# Altium integrated library NXP Semiconductors Standard MOSFETs.IntLib: 477 symbols (part 2 of 14)
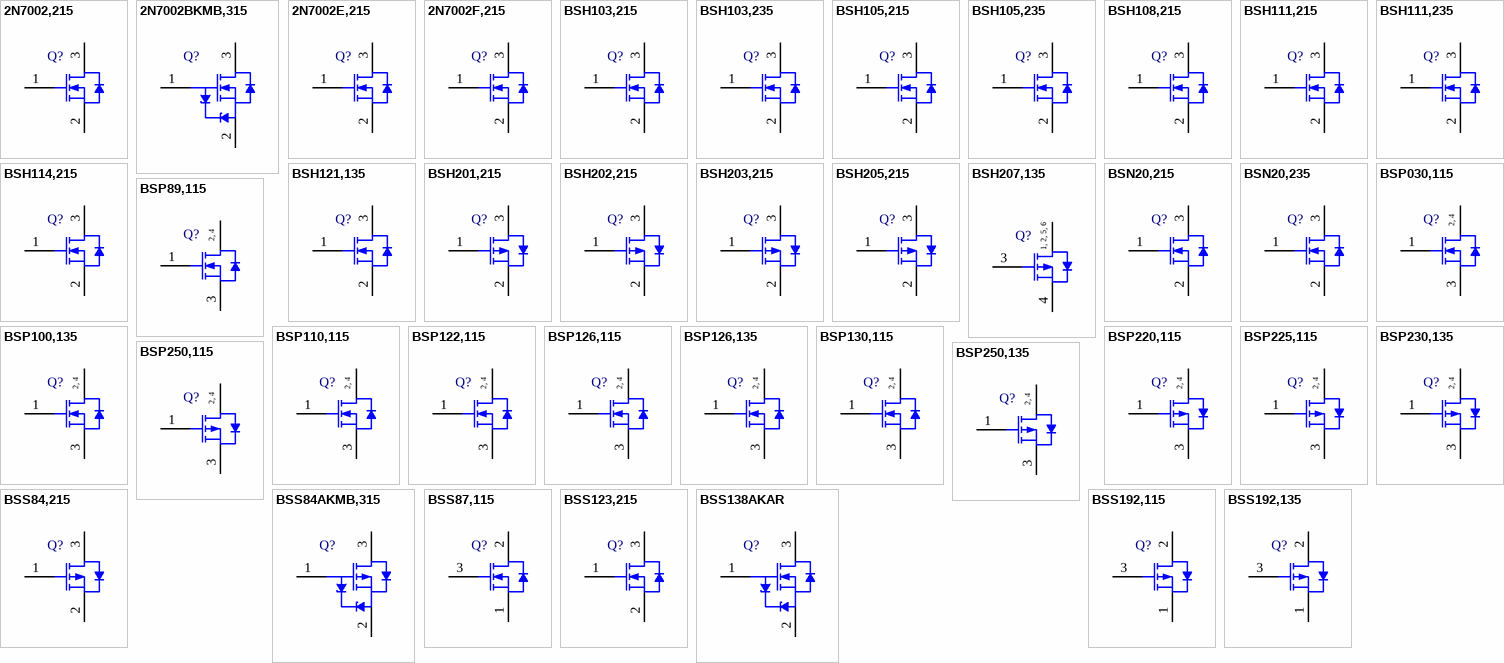
[diagram p13: symbols 2N7002,215 to BSS192,135]

## BSP250,115
designator Q?
P-Channel Enhancement Mode Vertical D-MOS Transistor, -30 V, -3 A, 4-Pin SOT223, Tape and Reel; Manufacturer: NXP Semiconductors; PartNumber: BSP250,115; Channel Type: P; Ciss [typ] (pF): 250; Coss [typ] (pF): 140; Packing: Tape & Reel; PackageVersion: 06-03-16, 03/2006; PackageReference: SOT223; PackageDescription: 4-Pin Small Outline Transistor Package, Body 6.5 x 3.5 mm, Pitch 2.3 mm; Supplier 1: Digi-Key; Supplier Part Number 1: 568-6222-2-ND; Supplier 2: Digi-Key; Supplier Part Number 2: 568-6222-1-ND; Supplier 3: Digi-Key; Supplier Part Number 3: 568-6222-6-ND; Supplier 4: Farnell; Supplier Part Number 4: 1758086RL; Supplier 5: Farnell; Supplier Part Number 5: 1758086; Supplier 6: Newark; Supplier Part Number 6: 34R3025; Supplier 7: Mouser; Supplier Part Number 7: 771-BSP250115; ID [max] (A): -3; VDS [max] (V): -30; Mounting Technology: Surface Mount; Code_JEITA: SC-73; ComponentLink1Description: Manufacturer URL; ComponentLink1URL: http://www.nxp.com/; ComponentLink2Description: Datasheet; ComponentLink2URL: http://www.nxp.com/documents/data_sheet/BSP250.pdf; ComponentLink3Description: Package Specification; ComponentLink3URL: http://www.nxp.com/documents/outline_drawing/sot223_po.pdf
footprint NXP-SOT223_N (SOT223, 4-Leads, Body 6.7x3.7mm, Pitch 2.3mm, IPC Medium Density)
footprint NXP-SOT223_L (SOT223, 4-Leads, Body 6.7x3.7mm, Pitch 2.3mm, IPC High Density)
footprint NXP-SOT223_M (SOT223, 4-Leads, Body 6.7x3.7mm, Pitch 2.3mm, IPC Low Density)
pins: 1 G "gate", 2 D "drain", 3 S "source", 4 D "drain"
text: 2, 4

## BSP250,135
designator Q?
P-Channel Enhancement Mode Vertical D-MOS Transistor, -30 V, -3 A, 4-Pin SOT223, Tape and Reel; Manufacturer: NXP Semiconductors; PartNumber: BSP250,135; Channel Type: P; Ciss [typ] (pF): 250; Coss [typ] (pF): 140; Packing: Tape & Reel; PackageVersion: 06-03-16, 03/2006; PackageReference: SOT223; PackageDescription: 4-Pin Small Outline Transistor Package, Body 6.5 x 3.5 mm, Pitch 2.3 mm; Supplier 1: Digi-Key; Supplier Part Number 1: 568-6960-2-ND; Supplier 2: Digi-Key; Supplier Part Number 2: 568-6960-1-ND; Supplier 3: Digi-Key; Supplier Part Number 3: 568-6960-6-ND; Supplier 4: Newark; Supplier Part Number 4: 70R2939; Supplier 5: Mouser; Supplier Part Number 5: 771-BSP250135; ID [max] (A): -3; VDS [max] (V): -30; Mounting Technology: Surface Mount; Code_JEITA: SC-73; ComponentLink1Description: Manufacturer URL; ComponentLink1URL: http://www.nxp.com/; ComponentLink2Description: Datasheet; ComponentLink2URL: http://www.nxp.com/documents/data_sheet/BSP250.pdf; ComponentLink3Description: Package Specification; ComponentLink3URL: http://www.nxp.com/documents/outline_drawing/sot223_po.pdf
footprint NXP-SOT223_N (SOT223, 4-Leads, Body 6.7x3.7mm, Pitch 2.3mm, IPC Medium Density)
footprint NXP-SOT223_L (SOT223, 4-Leads, Body 6.7x3.7mm, Pitch 2.3mm, IPC High Density)
footprint NXP-SOT223_M (SOT223, 4-Leads, Body 6.7x3.7mm, Pitch 2.3mm, IPC Low Density)
pins: 1 G "gate", 2 D "drain", 3 S "source", 4 D "drain"
text: 2, 4

## BSS84,215
designator Q?
P-Channel Enhancement Mode Vertical DMOS Transistor, -50 V, -0.13 A, 3-Pin SOT23, Tape and Reel; Manufacturer: NXP Semiconductors; PartNumber: BSS84,215; Channel Type: P; Ciss [typ] (pF): 25; Coss [typ] (pF): 15; Packing: Tape & Reel; DatasheetVersion: Rev. 06; PackageVersion: 06-03-16, 03/2006; PackageReference: SOT23; PackageDescription: 3-Pin Small Outline Transistor Package, Body 2.9 x 1.3 mm, Pitch 0.95 mm; Supplier 1: Digi-Key; Supplier Part Number 1: 568-1660-2-ND; Supplier 2: Digi-Key; Supplier Part Number 2: 568-1660-1-ND; Supplier 3: Digi-Key; Supplier Part Number 3: 568-1660-6-ND; Supplier 4: Farnell; Supplier Part Number 4: 1510765; Supplier 5: Farnell; Supplier Part Number 5: 1510765RL; Supplier 6: Farnell; Supplier Part Number 6: 2319389; Supplier 7: Newark; Supplier Part Number 7: 75R4702; Supplier 8: Newark; Supplier Part Number 8: 70R2967; Supplier 9: Mouser; Supplier Part Number 9: 771-BSS84-T/R; ID [max] (A): -0.13; VDS [max] (V): -50; Mounting Technology: Surface Mount; Code_JEDEC: TO-236AB; ComponentLink1Description: Manufacturer URL; ComponentLink1URL: http://www.nxp.com/; ComponentLink2Description: Datasheet; ComponentLink2URL: http://www.nxp.com/documents/data_sheet/BSS84.pdf; ComponentLink3Description: Package Specification; ComponentLink3URL: http://www.nxp.com/documents/outline_drawing/sot023_po.pdf
footprint NXP-SOT23_N (SOT23, 3-Leads, Body 3x1.4mm, Pitch 0.95mm, IPC Medium Density)
footprint NXP-SOT23_L (SOT23, 3-Leads, Body 3x1.4mm, Pitch 0.95mm, IPC High Density)
footprint NXP-SOT23_M (SOT23, 3-Leads, Body 3x1.4mm, Pitch 0.95mm, IPC Low Density)
pins: 1 G "gate", 2 S "source", 3 D "drain"

## BSS84AKMB,315
designator Q?
Single P-Channel Trench MOSFET, -50 V, -0.23 A, -55 to 150 degC, 3-Pin SOT883B, Reel; Manufacturer: NXP Semiconductors; PartNumber: BSS84AKMB,315; Channel Type: P; Ciss [typ] (pF): 24; Coss [typ] (pF): 4.5; VGSth [typ] (V): -1.6; DatasheetVersion: Rev. 1; PackageVersion: 12-01-03, 01/2012; PackageReference: SOT883B; PackageDescription: 3-Pin Small Outline No-Lead, Body 0.6 x 1 mm, Pitch 0.35 mm; Supplier 1: Digi-Key; Supplier Part Number 1: 568-10472-2-ND; Supplier 2: Digi-Key; Supplier Part Number 2: 568-10472-1-ND; Supplier 3: Digi-Key; Supplier Part Number 3: 568-10472-6-ND; Supplier 4: Newark; Supplier Part Number 4: 90T4165; Supplier 5: Mouser; Supplier Part Number 5: 771-BSS84AKMB315; ID [max] (A): -0.23; Packing: Reel; VDS [max] (V): -50; Mounting Technology: Surface Mount; ComponentLink1Description: Manufacturer URL; ComponentLink1URL: http://www.nxp.com/; ComponentLink2Description: Datasheet; ComponentLink2URL: http://www.nxp.com/documents/data_sheet/BSS84AKMB.pdf; ComponentLink3Description: Package Specification; ComponentLink3URL: http://www.nxp.com/documents/outline_drawing/sot883b_po.pdf
footprint NXP-SOT883B_N (SON, 3-Leads, Body 1.05x0.65mm, Pitch 0.35mm, IPC Medium Density)
footprint NXP-SOT883B_L (SON, 3-Leads, Body 1.05x0.65mm, Pitch 0.35mm, IPC High Density)
footprint NXP-SOT883B_M (SON, 3-Leads, Body 1.05x0.65mm, Pitch 0.35mm, IPC Low Density)
pins: 1 G "gate", 2 S "source", 3 D "drain"

## BSS87,115
designator Q?
N-Channel Vertical D-MOS Transistor, 200 V, -55 to 150 degC, 3-Pin SOT89, Tape and Reel; Manufacturer: NXP Semiconductors; PartNumber: BSS87,115; Channel Type: N; Ciss [typ] (pF): 100; Coss [typ] (pF): 20; Packing: Tape & Reel; VDS [max] (V): 200; DatasheetVersion: Rev. 4; PackageVersion: 06-08-29, 08/2006; PackageReference: SOT89_A; PackageDescription: 3-Pin Small Outline Transistor Package, Body 4.5 x 2.5 mm, Pitch 1.5 mm; Supplier 1: Digi-Key; Supplier Part Number 1: 568-6228-2-ND; Supplier 2: Digi-Key; Supplier Part Number 2: 568-6228-1-ND; Supplier 3: Digi-Key; Supplier Part Number 3: 568-6228-6-ND; Supplier 4: Farnell; Supplier Part Number 4: 1758089RL; Supplier 5: Farnell; Supplier Part Number 5: 1758089; Supplier 6: Newark; Supplier Part Number 6: 75R4703; Supplier 7: Newark; Supplier Part Number 7: 34R3038; Supplier 8: Mouser; Supplier Part Number 8: 771-BSS87-T/R; Mounting Technology: Surface Mount; Code_JEITA: SC-62; Code_JEDEC: TO-243; ComponentLink1Description: Manufacturer URL; ComponentLink1URL: http://www.nxp.com/; ComponentLink2Description: Datasheet; ComponentLink2URL: http://www.nxp.com/documents/data_sheet/BSS87.pdf; ComponentLink3Description: Package Specification; ComponentLink3URL: http://www.nxp.com/documents/data_sheet/BSS87.pdf
footprint NXP-SOT89_A_N (SOT89, 3-Leads, Body 4.6x2.6mm, Pitch 1.5mm, IPC Medium Density)
footprint NXP-SOT89_A_L (SOT89, 3-Leads, Body 4.6x2.6mm, Pitch 1.5mm, IPC High Density)
footprint NXP-SOT89_A_M (SOT89, 3-Leads, Body 4.6x2.6mm, Pitch 1.5mm, IPC Low Density)
pins: 1 S "source", 2 D "drain", 3 G "gate"

## BSS123,215
designator Q?
N-Channel TrenchMOS(TM) Transistor Logic Level FET, 100 V, 0.15 A, 3-Pin SOT23, Tape and Reel; Manufacturer: NXP Semiconductors; PartNumber: BSS123,215; Channel Type: N; Ciss [typ] (pF): 23; Coss [typ] (pF): 6; ID [max] (A): 0.15; Packing: Tape & Reel; VDS [max] (V): 100; VGSth [typ] (V): 2; DatasheetVersion: Rev. 1.000; PackageVersion: 06-03-16, 03/2006; PackageReference: SOT23; PackageDescription: 3-Pin Small Outline Transistor Package, Body 2.9 x 1.3 mm, Pitch 0.95 mm; Supplier 1: Digi-Key; Supplier Part Number 1: 568-4873-2-ND; Supplier 2: Digi-Key; Supplier Part Number 2: 568-4873-1-ND; Supplier 3: Digi-Key; Supplier Part Number 3: 568-4873-6-ND; Supplier 4: Farnell; Supplier Part Number 4: 1510764; Supplier 5: Farnell; Supplier Part Number 5: 1510764RL; Supplier 6: Farnell; Supplier Part Number 6: 2319393; Supplier 7: Newark; Supplier Part Number 7: 75R4699; Supplier 8: Newark; Supplier Part Number 8: 70R2961; Supplier 9: Mouser; Supplier Part Number 9: 771-BSS123-T/R; Mounting Technology: Surface Mount; Code_JEDEC: TO-236AB; ComponentLink1Description: Manufacturer URL; ComponentLink1URL: http://www.nxp.com/; ComponentLink2Description: Datasheet; ComponentLink2URL: http://www.nxp.com/documents/data_sheet/BSS123.pdf; ComponentLink3Description: Package Specification; ComponentLink3URL: http://www.nxp.com/documents/outline_drawing/sot023_po.pdf
footprint NXP-SOT23_N (SOT23, 3-Leads, Body 3x1.4mm, Pitch 0.95mm, IPC Medium Density)
footprint NXP-SOT23_L (SOT23, 3-Leads, Body 3x1.4mm, Pitch 0.95mm, IPC High Density)
footprint NXP-SOT23_M (SOT23, 3-Leads, Body 3x1.4mm, Pitch 0.95mm, IPC Low Density)
pins: 1 G "gate", 2 S "source", 3 D "drain"

## BSS138AKAR
designator Q?
Single N-Channel Trench MOSFET, 60 V, 0.2 A, -55 to 150 degC, 3-Pin SOT23, Tape and Reel; Manufacturer: NXP Semiconductors; PartNumber: BSS138AKAR; Channel Type: N; Ciss [typ] (pF): 31; Coss [typ] (pF): 21; ID [max] (A): 0.2; Packing: Tape & Reel; VDS [max] (V): 60; VGSth [typ] (V): 1.2; DatasheetVersion: Rev. 1; PackageVersion: 06-03-16, 03/2006; PackageReference: SOT23; PackageDescription: 3-Pin Small Outline Transistor Package, Body 2.9 x 1.3 mm, Pitch 0.95 mm; Supplier 1: Digi-Key; Supplier Part Number 1: 568-10469-2-ND; Supplier 2: Digi-Key; Supplier Part Number 2: 568-10469-1-ND; Supplier 3: Digi-Key; Supplier Part Number 3: 568-10469-6-ND; Supplier 4: Mouser; Supplier Part Number 4: 771-BSS138AKAR; Mounting Technology: Surface Mount; Code_JEDEC: TO-236AB; ComponentLink1Description: Manufacturer URL; ComponentLink1URL: http://www.nxp.com/; ComponentLink2Description: Datasheet; ComponentLink2URL: http://www.nxp.com/documents/data_sheet/BSS138AKA.pdf; ComponentLink3Description: Package Specification; ComponentLink3URL: http://www.nxp.com/documents/outline_drawing/sot023_po.pdf
footprint NXP-SOT23_N (SOT23, 3-Leads, Body 3x1.4mm, Pitch 0.95mm, IPC Medium Density)
footprint NXP-SOT23_L (SOT23, 3-Leads, Body 3x1.4mm, Pitch 0.95mm, IPC High Density)
footprint NXP-SOT23_M (SOT23, 3-Leads, Body 3x1.4mm, Pitch 0.95mm, IPC Low Density)
pins: 1 G "gate", 2 S "source", 3 D "drain"

## BSS192,115
designator Q?
P-Channel Enhancement Mode Vertical D-MOS Transistor, -240 V, -0.2 A, 3-Pin SOT89, Tape and Reel; Manufacturer: NXP Semiconductors; PartNumber: BSS192,115; Channel Type: P; Ciss [typ] (pF): 55; Coss [typ] (pF): 20; Packing: Tape & Reel; PackageVersion: 06-08-29, 08/2006; PackageReference: SOT89_A; PackageDescription: 3-Pin Small Outline Transistor Package, Body 4.5 x 2.5 mm, Pitch 1.5 mm; Supplier 1: Digi-Key; Supplier Part Number 1: 568-6226-2-ND; Supplier 2: Digi-Key; Supplier Part Number 2: 568-6226-1-ND; Supplier 3: Digi-Key; Supplier Part Number 3: 568-6226-6-ND; Supplier 4: Farnell; Supplier Part Number 4: 1758088RL; Supplier 5: Farnell; Supplier Part Number 5: 1758088; Supplier 6: Newark; Supplier Part Number 6: 34R3037; Supplier 7: Mouser; Supplier Part Number 7: 771-BSS192115; ID [max] (A): -0.2; VDS [max] (V): -240; Mounting Technology: Surface Mount; Code_JEITA: SC-62; Code_JEDEC: TO-243; ComponentLink1Description: Manufacturer URL; ComponentLink1URL: http://www.nxp.com/; ComponentLink2Description: Datasheet; ComponentLink2URL: http://www.nxp.com/documents/data_sheet/BSS192.pdf; ComponentLink3Description: Package Specification; ComponentLink3URL: http://www.nxp.com/documents/data_sheet/BSS87.pdf
footprint NXP-SOT89_A_N (SOT89, 3-Leads, Body 4.6x2.6mm, Pitch 1.5mm, IPC Medium Density)
footprint NXP-SOT89_A_L (SOT89, 3-Leads, Body 4.6x2.6mm, Pitch 1.5mm, IPC High Density)
footprint NXP-SOT89_A_M (SOT89, 3-Leads, Body 4.6x2.6mm, Pitch 1.5mm, IPC Low Density)
pins: 1 S "source", 2 D "drain", 3 G "gate"

## BSS192,135
designator Q?
P-Channel Enhancement Mode Vertical D-MOS Transistor, -240 V, -0.2 A, 3-Pin SOT89, Tape and Reel; Manufacturer: NXP Semiconductors; PartNumber: BSS192,135; Channel Type: P; Ciss [typ] (pF): 55; Coss [typ] (pF): 20; Packing: Tape & Reel; PackageVersion: 06-08-29, 08/2006; PackageReference: SOT89_A; PackageDescription: 3-Pin Small Outline Transistor Package, Body 4.5 x 2.5 mm, Pitch 1.5 mm; Supplier 1: Digi-Key; Supplier Part Number 1: BSS192,135-ND; Supplier 2: Mouser; Supplier Part Number 2: 771-BSS192135; ID [max] (A): -0.2; VDS [max] (V): -240; Mounting Technology: Surface Mount; Code_JEITA: SC-62; Code_JEDEC: TO-243; ComponentLink1Description: Manufacturer URL; ComponentLink1URL: http://www.nxp.com/; ComponentLink2Description: Datasheet; ComponentLink2URL: http://www.nxp.com/documents/data_sheet/BSS192.pdf; ComponentLink3Description: Package Specification; ComponentLink3URL: http://www.nxp.com/documents/data_sheet/BSS87.pdf
footprint NXP-SOT89_A_N (SOT89, 3-Leads, Body 4.6x2.6mm, Pitch 1.5mm, IPC Medium Density)
footprint NXP-SOT89_A_L (SOT89, 3-Leads, Body 4.6x2.6mm, Pitch 1.5mm, IPC High Density)
footprint NXP-SOT89_A_M (SOT89, 3-Leads, Body 4.6x2.6mm, Pitch 1.5mm, IPC Low Density)
pins: 1 S "source", 2 D "drain", 3 G "gate"

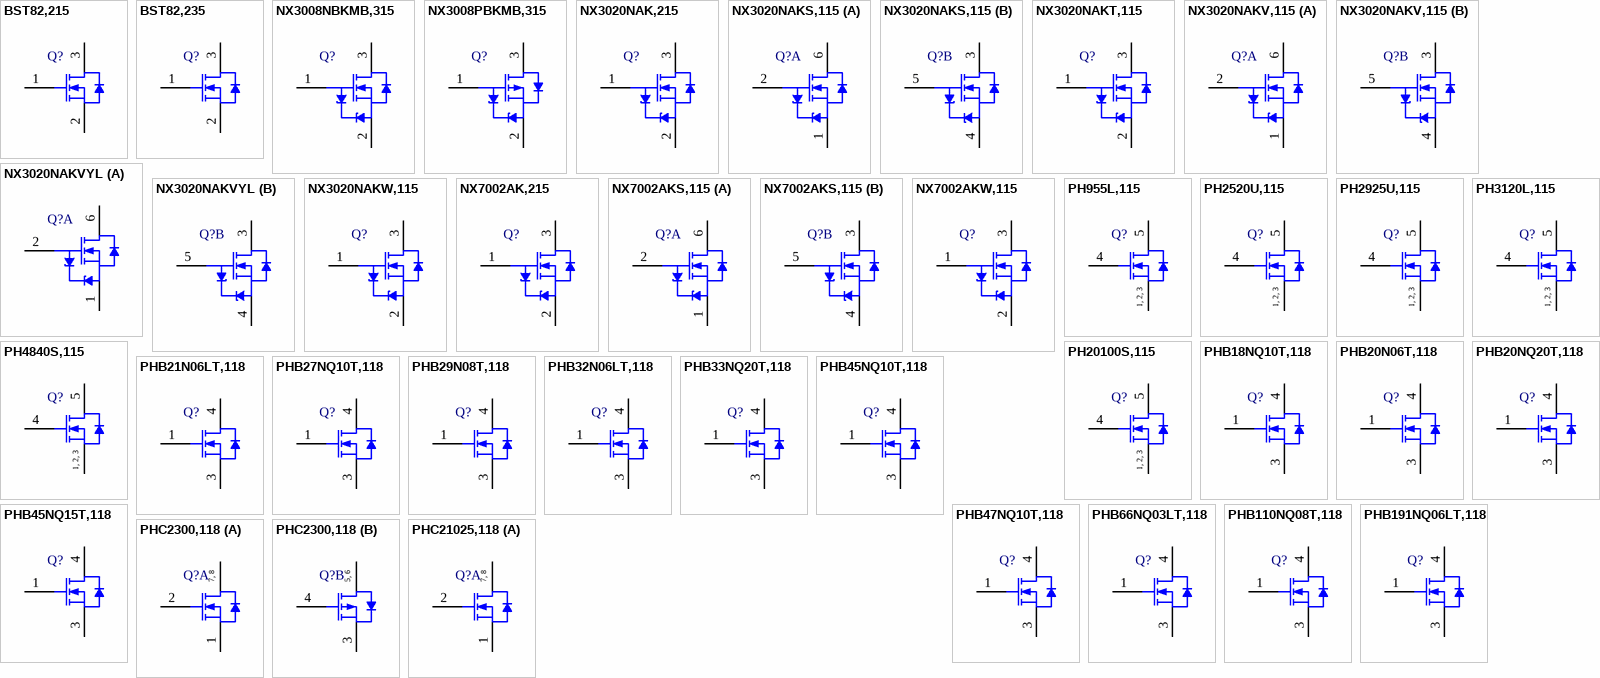
[diagram p1: symbols BST82,215 to PHC21025,118]

## BST82,215
designator Q?
N-Channel Enhancement Mode Field-Effect Transistor, 100 V, 0.19 A, 3-Pin SOT23, Tape and Reel; Manufacturer: NXP Semiconductors; PartNumber: BST82,215; Channel Type: N; Ciss [typ] (pF): 25; Coss [typ] (pF): 8.5; ID [max] (A): 0.19; Packing: Tape & Reel; Qr [typ] (nC): 30; VDS [max] (V): 100; VGSth [typ] (V): 2; DatasheetVersion: Rev. 03; PackageVersion: 06-03-16, 03/2006; PackageReference: SOT23; PackageDescription: 3-Pin Small Outline Transistor Package, Body 2.9 x 1.3 mm, Pitch 0.95 mm; Supplier 1: Digi-Key; Supplier Part Number 1: 568-6229-2-ND; Supplier 2: Digi-Key; Supplier Part Number 2: 568-6229-1-ND; Supplier 3: Digi-Key; Supplier Part Number 3: 568-6229-6-ND; Supplier 4: Newark; Supplier Part Number 4: 75R4704; Supplier 5: Newark; Supplier Part Number 5: 70R2978; Supplier 6: Mouser; Supplier Part Number 6: 771-BST82215; Mounting Technology: Surface Mount; Code_JEDEC: TO-236AB; ComponentLink1Description: Manufacturer URL; ComponentLink1URL: http://www.nxp.com/; ComponentLink2Description: Datasheet; ComponentLink2URL: http://www.nxp.com/documents/data_sheet/BST82.pdf; ComponentLink3Description: Package Specification; ComponentLink3URL: http://www.nxp.com/documents/outline_drawing/sot023_po.pdf
footprint NXP-SOT23_N (SOT23, 3-Leads, Body 3x1.4mm, Pitch 0.95mm, IPC Medium Density)
footprint NXP-SOT23_L (SOT23, 3-Leads, Body 3x1.4mm, Pitch 0.95mm, IPC High Density)
footprint NXP-SOT23_M (SOT23, 3-Leads, Body 3x1.4mm, Pitch 0.95mm, IPC Low Density)
pins: 1 G "gate", 2 S "source", 3 D "drain"

## BST82,235
designator Q?
N-Channel Enhancement Mode Field-Effect Transistor, 100 V, 0.19 A, 3-Pin SOT23, Tape and Reel; Manufacturer: NXP Semiconductors; PartNumber: BST82,235; Channel Type: N; Ciss [typ] (pF): 25; Coss [typ] (pF): 8.5; ID [max] (A): 0.19; Packing: Tape & Reel; Qr [typ] (nC): 30; VDS [max] (V): 100; VGSth [typ] (V): 2; DatasheetVersion: Rev. 03; PackageVersion: 06-03-16, 03/2006; PackageReference: SOT23; PackageDescription: 3-Pin Small Outline Transistor Package, Body 2.9 x 1.3 mm, Pitch 0.95 mm; Supplier 1: Digi-Key; Supplier Part Number 1: BST82,235-ND; Supplier 2: Newark; Supplier Part Number 2: 70R2979; Supplier 3: Mouser; Supplier Part Number 3: 771-BST82235; Mounting Technology: Surface Mount; Code_JEDEC: TO-236AB; ComponentLink1Description: Manufacturer URL; ComponentLink1URL: http://www.nxp.com/; ComponentLink2Description: Datasheet; ComponentLink2URL: http://www.nxp.com/documents/data_sheet/BST82.pdf; ComponentLink3Description: Package Specification; ComponentLink3URL: http://www.nxp.com/documents/outline_drawing/sot023_po.pdf
footprint NXP-SOT23_N (SOT23, 3-Leads, Body 3x1.4mm, Pitch 0.95mm, IPC Medium Density)
footprint NXP-SOT23_L (SOT23, 3-Leads, Body 3x1.4mm, Pitch 0.95mm, IPC High Density)
footprint NXP-SOT23_M (SOT23, 3-Leads, Body 3x1.4mm, Pitch 0.95mm, IPC Low Density)
pins: 1 G "gate", 2 S "source", 3 D "drain"

## NX3008NBKMB,315
designator Q?
Single N-Channel Trench MOSFET, 30 V, 0.53 A, -55 to 150 degC, 3-Pin SOT883B, Reel; Manufacturer: NXP Semiconductors; PartNumber: NX3008NBKMB,315; Channel Type: N; Ciss [typ] (pF): 34; Coss [typ] (pF): 6.5; ID [max] (A): 0.53; VDS [max] (V): 30; VGSth [typ] (V): 0.9; DatasheetVersion: Rev. 1; PackageVersion: 12-01-03, 01/2012; PackageReference: SOT883B; PackageDescription: 3-Pin Small Outline No-Lead, Body 0.6 x 1 mm, Pitch 0.35 mm; Supplier 1: Digi-Key; Supplier Part Number 1: 568-10439-2-ND; Supplier 2: Digi-Key; Supplier Part Number 2: 568-10439-1-ND; Supplier 3: Digi-Key; Supplier Part Number 3: 568-10439-6-ND; Supplier 4: Mouser; Supplier Part Number 4: 771-NX3008NBKMB315; Packing: Reel; Mounting Technology: Surface Mount; ComponentLink1Description: Manufacturer URL; ComponentLink1URL: http://www.nxp.com/; ComponentLink2Description: Datasheet; ComponentLink2URL: http://www.nxp.com/documents/data_sheet/NX3008NBKMB.pdf; ComponentLink3Description: Package Specification; ComponentLink3URL: http://www.nxp.com/documents/outline_drawing/sot883b_po.pdf
footprint NXP-SOT883B_N (SON, 3-Leads, Body 1.05x0.65mm, Pitch 0.35mm, IPC Medium Density)
footprint NXP-SOT883B_L (SON, 3-Leads, Body 1.05x0.65mm, Pitch 0.35mm, IPC High Density)
footprint NXP-SOT883B_M (SON, 3-Leads, Body 1.05x0.65mm, Pitch 0.35mm, IPC Low Density)
pins: 1 G "gate", 2 S "source", 3 D "drain"

## NX3008PBKMB,315
designator Q?
Single P-Channel Trench MOSFET, -30 V, -0.3 A, -55 to 150 degC, 3-Pin SOT883B, Reel; Manufacturer: NXP Semiconductors; PartNumber: NX3008PBKMB,315; Channel Type: P; Ciss [typ] (pF): 31; Coss [typ] (pF): 6.5; VGSth [typ] (V): -0.9; DatasheetVersion: Rev. 1; PackageVersion: 12-01-03, 01/2012; PackageReference: SOT883B; PackageDescription: 3-Pin Small Outline No-Lead, Body 0.6 x 1 mm, Pitch 0.35 mm; Supplier 1: Digi-Key; Supplier Part Number 1: 568-10440-2-ND; Supplier 2: Digi-Key; Supplier Part Number 2: 568-10440-1-ND; Supplier 3: Digi-Key; Supplier Part Number 3: 568-10440-6-ND; Supplier 4: Mouser; Supplier Part Number 4: 771-NX3008PBKMB315; ID [max] (A): -0.3; Packing: Reel; VDS [max] (V): -30; Mounting Technology: Surface Mount; ComponentLink1Description: Manufacturer URL; ComponentLink1URL: http://www.nxp.com/; ComponentLink2Description: Datasheet; ComponentLink2URL: http://www.nxp.com/documents/data_sheet/NX3008PBKMB.pdf; ComponentLink3Description: Package Specification; ComponentLink3URL: http://www.nxp.com/documents/outline_drawing/sot883b_po.pdf
footprint NXP-SOT883B_N (SON, 3-Leads, Body 1.05x0.65mm, Pitch 0.35mm, IPC Medium Density)
footprint NXP-SOT883B_L (SON, 3-Leads, Body 1.05x0.65mm, Pitch 0.35mm, IPC High Density)
footprint NXP-SOT883B_M (SON, 3-Leads, Body 1.05x0.65mm, Pitch 0.35mm, IPC Low Density)
pins: 1 G "gate", 2 S "source", 3 D "drain"

## NX3020NAK,215
designator Q?
Single N-Channel Trench MOSFET, 30 V, 0.2 A, -55 to 150 degC, 3-Pin SOT23, Tape and Reel; Manufacturer: NXP Semiconductors; PartNumber: NX3020NAK,215; Channel Type: N; Ciss [typ] (pF): 13; Coss [typ] (pF): 2.6; ID [max] (A): 0.2; Packing: Tape & Reel; VDS [max] (V): 30; VGSth [typ] (V): 1.2; DatasheetVersion: Rev. 2; PackageVersion: 06-03-16, 03/2006; PackageReference: SOT23; PackageDescription: 3-Pin Small Outline Transistor Package, Body 2.9 x 1.3 mm, Pitch 0.95 mm; Supplier 1: Digi-Key; Supplier Part Number 1: 568-10504-2-ND; Supplier 2: Digi-Key; Supplier Part Number 2: 568-10504-1-ND; Supplier 3: Digi-Key; Supplier Part Number 3: 568-10504-6-ND; Supplier 4: Newark; Supplier Part Number 4: 70W0120; Supplier 5: Mouser; Supplier Part Number 5: 771-NX3020NAK215; Mounting Technology: Surface Mount; Code_JEDEC: TO-236AB; ComponentLink1Description: Manufacturer URL; ComponentLink1URL: http://www.nxp.com/; ComponentLink2Description: Datasheet; ComponentLink2URL: http://www.nxp.com/documents/data_sheet/NX3020NAK.pdf; ComponentLink3Description: Package Specification; ComponentLink3URL: http://www.nxp.com/documents/outline_drawing/sot023_po.pdf
footprint NXP-SOT23_N (SOT23, 3-Leads, Body 3x1.4mm, Pitch 0.95mm, IPC Medium Density)
footprint NXP-SOT23_L (SOT23, 3-Leads, Body 3x1.4mm, Pitch 0.95mm, IPC High Density)
footprint NXP-SOT23_M (SOT23, 3-Leads, Body 3x1.4mm, Pitch 0.95mm, IPC Low Density)
pins: 1 G "gate", 2 S "source", 3 D "drain"

## NX3020NAKS,115
designator Q?
Dual N-Channel Trench MOSFET, 30 V, 0.18 A, -55 to 150 degC, 6-Pin SOT363, Tape and Reel; Manufacturer: NXP Semiconductors; PartNumber: NX3020NAKS,115; Channel Type: N; Ciss [typ] (pF): 13; Coss [typ] (pF): 2.6; ID [max] (A): 0.18; Packing: Tape & Reel; VDS [max] (V): 30; VGSth [typ] (V): 1.2; DatasheetVersion: Rev. 3; PackageVersion: 06-03-16, 03/2006; PackageReference: SOT363; PackageDescription: 6-Pin Small Outline Transistor Package, Body 2 x 1.25 mm, Pitch 0.65 mm; Supplier 1: Digi-Key; Supplier Part Number 1: 568-10505-2-ND; Supplier 2: Digi-Key; Supplier Part Number 2: 568-10505-1-ND; Supplier 3: Digi-Key; Supplier Part Number 3: 568-10505-6-ND; Supplier 4: Mouser; Supplier Part Number 4: 771-NX3020NAKS115; Mounting Technology: Surface Mount; Code_JEITA: SC-88; ComponentLink1Description: Manufacturer URL; ComponentLink1URL: http://www.nxp.com/; ComponentLink2Description: Datasheet; ComponentLink2URL: http://www.nxp.com/documents/data_sheet/NX3020NAKS.pdf; ComponentLink3Description: Package Specification; ComponentLink3URL: http://www.nxp.com/documents/outline_drawing/sot363_po.pdf
footprint NXP-SOT363_N (SOT23, 6-Leads, Body 2.2x1.35mm, Pitch 0.65mm, IPC Medium Density)
footprint NXP-SOT363_L (SOT23, 6-Leads, Body 2.2x1.35mm, Pitch 0.65mm, IPC High Density)
footprint NXP-SOT363_M (SOT23, 6-Leads, Body 2.2x1.35mm, Pitch 0.65mm, IPC Low Density)
part A pins: 1 S1 "source TR1", 2 G1 "gate TR1", 6 D1 "drain TR1"
part B pins: 3 D2 "drain TR2", 4 S2 "source TR2", 5 G2 "gate TR2"

## NX3020NAKT,115
designator Q?
N-Channel Trench MOSFET, 30 V, 0.18 A, -55 to 150 degC, 3-Pin SOT416, Tape and Reel; Manufacturer: NXP Semiconductors; PartNumber: NX3020NAKT,115; Channel Type: N; Ciss [typ] (pF): 13; Coss [typ] (pF): 2.6; ID [max] (A): 0.18; Packing: Tape & Reel; VDS [max] (V): 30; VGSth [typ] (V): 1.2; DatasheetVersion: Rev. 2; PackageVersion: 06-03-16, 03/2006; PackageReference: SOT416_B; PackageDescription: 3-Pin Small Outline Transistor Package, Body 1.6 x 0.8 mm, Pitch 0.5 mm; Supplier 1: Digi-Key; Supplier Part Number 1: 568-10506-2-ND; Supplier 2: Digi-Key; Supplier Part Number 2: 568-10506-1-ND; Supplier 3: Digi-Key; Supplier Part Number 3: 568-10506-6-ND; Supplier 4: Mouser; Supplier Part Number 4: 771-NX3020NAKT115; Mounting Technology: Surface Mount; Code_JEITA: SC-75; ComponentLink1Description: Manufacturer URL; ComponentLink1URL: http://www.nxp.com/; ComponentLink2Description: Datasheet; ComponentLink2URL: http://www.nxp.com/documents/data_sheet/NX3020NAKT.pdf; ComponentLink3Description: Package Specification; ComponentLink3URL: http://www.nxp.com/documents/data_sheet/2N7002PT.pdf
footprint NXP-SOT416_B_N (SOT23, 3-Leads, Body 1.6x0.8mm, Pitch 0.5mm, IPC Medium Density)
footprint NXP-SOT416_B_L (SOT23, 3-Leads, Body 1.6x0.8mm, Pitch 0.5mm, IPC High Density)
footprint NXP-SOT416_B_M (SOT23, 3-Leads, Body 1.6x0.8mm, Pitch 0.5mm, IPC Low Density)
pins: 1 G "gate", 2 S "source", 3 D "drain"

## NX3020NAKV,115
designator Q?
Dual N-Channel Trench MOSFET, 30 V, 0.2 A, -55 to 150 degC, 6-Pin SOT666, Tape and Reel; Manufacturer: NXP Semiconductors; PartNumber: NX3020NAKV,115; Channel Type: N; Ciss [typ] (pF): 13; Coss [typ] (pF): 2.6; ID [max] (A): 0.2; Packing: Tape & Reel; VDS [max] (V): 30; VGSth [typ] (V): 1.2; DatasheetVersion: Rev. 2; PackageVersion: 06-03-16, 03/2006; PackageReference: SOT666; PackageDescription: 6-Pin Small Outline Transistor Package, Body 1.6 x 1.2 mm, Pitch 0.5 mm; Supplier 1: Digi-Key; Supplier Part Number 1: 568-10507-2-ND; Supplier 2: Digi-Key; Supplier Part Number 2: 568-10507-1-ND; Supplier 3: Digi-Key; Supplier Part Number 3: 568-10507-6-ND; Supplier 4: Mouser; Supplier Part Number 4: 771-NX3020NAKV115; Mounting Technology: Surface Mount; ComponentLink1Description: Manufacturer URL; ComponentLink1URL: http://www.nxp.com/; ComponentLink2Description: Datasheet; ComponentLink2URL: http://www.nxp.com/documents/data_sheet/NX3020NAKV.pdf; ComponentLink3Description: Package Specification; ComponentLink3URL: http://www.nxp.com/documents/outline_drawing/sot666_po.pdf
footprint NXP-SOT666_N (SOT23, 6-Leads, Body 1.7x1.3mm, Pitch 0.5mm, IPC Medium Density)
footprint NXP-SOT666_L (SOT23, 6-Leads, Body 1.7x1.3mm, Pitch 0.5mm, IPC High Density)
footprint NXP-SOT666_M (SOT23, 6-Leads, Body 1.7x1.3mm, Pitch 0.5mm, IPC Low Density)
part A pins: 1 S1 "source TR1", 2 G1 "gate TR1", 6 D1 "drain TR1"
part B pins: 3 D2 "drain TR2", 4 S2 "source TR2", 5 G2 "gate TR2"

## NX3020NAKVYL
designator Q?
Dual N-Channel Trench MOSFET, 30 V, 0.2 A, -55 to 150 degC, 6-Pin SOT666, Tape and Reel; Manufacturer: NXP Semiconductors; PartNumber: NX3020NAKVYL; Channel Type: N; Ciss [typ] (pF): 13; Coss [typ] (pF): 2.6; ID [max] (A): 0.2; Packing: Tape & Reel; VDS [max] (V): 30; VGSth [typ] (V): 1.2; DatasheetVersion: Rev. 2; PackageVersion: 06-03-16, 03/2006; PackageReference: SOT666; PackageDescription: 6-Pin Small Outline Transistor Package, Body 1.6 x 1.2 mm, Pitch 0.5 mm; Supplier 1: Mouser; Supplier Part Number 1: N/A; Mounting Technology: Surface Mount; ComponentLink1Description: Manufacturer URL; ComponentLink1URL: http://www.nxp.com/; ComponentLink2Description: Datasheet; ComponentLink2URL: http://www.nxp.com/documents/data_sheet/NX3020NAKV.pdf; ComponentLink3Description: Package Specification; ComponentLink3URL: http://www.nxp.com/documents/outline_drawing/sot666_po.pdf
footprint NXP-SOT666_N (SOT23, 6-Leads, Body 1.7x1.3mm, Pitch 0.5mm, IPC Medium Density)
footprint NXP-SOT666_L (SOT23, 6-Leads, Body 1.7x1.3mm, Pitch 0.5mm, IPC High Density)
footprint NXP-SOT666_M (SOT23, 6-Leads, Body 1.7x1.3mm, Pitch 0.5mm, IPC Low Density)
part A pins: 1 S1 "source TR1", 2 G1 "gate TR1", 6 D1 "drain TR1"
part B pins: 3 D2 "drain TR2", 4 S2 "source TR2", 5 G2 "gate TR2"

## NX3020NAKW,115
designator Q?
N-Channel Trench MOSFET, 30 V, 0.18 A, -55 to 150 degC, 3-Pin SOT323, Tape and Reel; Manufacturer: NXP Semiconductors; PartNumber: NX3020NAKW,115; Channel Type: N; Ciss [typ] (pF): 13; Coss [typ] (pF): 2.6; ID [max] (A): 0.18; Packing: Tape & Reel; VDS [max] (V): 30; VGSth [typ] (V): 1.2; DatasheetVersion: Rev. 2; PackageVersion: 06-03-16, 03/2006; PackageReference: SOT323; PackageDescription: 3-Pin Small Outline Transistor Package, Body 2 x 1.25 mm, Pitch 0.65 mm; Supplier 1: Digi-Key; Supplier Part Number 1: 568-10508-2-ND; Supplier 2: Digi-Key; Supplier Part Number 2: 568-10508-1-ND; Supplier 3: Digi-Key; Supplier Part Number 3: 568-10508-6-ND; Supplier 4: Mouser; Supplier Part Number 4: 771-NX3020NAKW115; Mounting Technology: Surface Mount; Code_JEITA: SC-70; ComponentLink1Description: Manufacturer URL; ComponentLink1URL: http://www.nxp.com/; ComponentLink2Description: Datasheet; ComponentLink2URL: http://www.nxp.com/documents/data_sheet/NX3020NAKW.pdf; ComponentLink3Description: Package Specification; ComponentLink3URL: http://www.nxp.com/documents/outline_drawing/sot323_po.pdf
footprint NXP-SOT323_N (SOT23, 3-Leads, Body 2.2x1.35mm, Pitch 0.65mm, IPC Medium Density)
footprint NXP-SOT323_L (SOT23, 3-Leads, Body 2.2x1.35mm, Pitch 0.65mm, IPC High Density)
footprint NXP-SOT323_M (SOT23, 3-Leads, Body 2.2x1.35mm, Pitch 0.65mm, IPC Low Density)
pins: 1 G "gate", 2 S "source", 3 D "drain"

## NX7002AK,215
designator Q?
Single N-Channel Trench MOSFET, 60 V, -55 to 150 degC, 3-Pin SOT23, Tape and Reel; Manufacturer: NXP Semiconductors; PartNumber: NX7002AK,215; Channel Type: N; Ciss [typ] (pF): 11; Coss [typ] (pF): 3.4; Packing: Tape & Reel; VDS [max] (V): 60; VGSth [typ] (V): 1.6; DatasheetVersion: Rev. 5; PackageVersion: 06-03-16, 03/2006; PackageReference: SOT23; PackageDescription: 3-Pin Small Outline Transistor Package, Body 2.9 x 1.3 mm, Pitch 0.95 mm; Supplier 1: Digi-Key; Supplier Part Number 1: 568-10510-2-ND; Supplier 2: Digi-Key; Supplier Part Number 2: 568-10510-1-ND; Supplier 3: Digi-Key; Supplier Part Number 3: 568-10510-6-ND; Supplier 4: Mouser; Supplier Part Number 4: 771-NX7002AK,215; Mounting Technology: Surface Mount; Code_JEDEC: TO-236AB; ComponentLink1Description: Manufacturer URL; ComponentLink1URL: http://www.nxp.com/; ComponentLink2Description: Datasheet; ComponentLink2URL: http://www.nxp.com/documents/data_sheet/NX7002AK.pdf; ComponentLink3Description: Package Specification; ComponentLink3URL: http://www.nxp.com/documents/outline_drawing/sot023_po.pdf
footprint NXP-SOT23_N (SOT23, 3-Leads, Body 3x1.4mm, Pitch 0.95mm, IPC Medium Density)
footprint NXP-SOT23_L (SOT23, 3-Leads, Body 3x1.4mm, Pitch 0.95mm, IPC High Density)
footprint NXP-SOT23_M (SOT23, 3-Leads, Body 3x1.4mm, Pitch 0.95mm, IPC Low Density)
pins: 1 G "gate", 2 S "source", 3 D "drain"

## NX7002AKS,115
designator Q?
Dual N-Channel Trench MOSFET, 60 V, 0.17 A, -55 to 150 degC, 6-Pin SOT363, Tape and Reel; Manufacturer: NXP Semiconductors; PartNumber: NX7002AKS,115; Channel Type: N; Ciss [typ] (pF): 11; Coss [typ] (pF): 3.4; ID [max] (A): 0.17; Packing: Tape & Reel; VDS [max] (V): 60; VGSth [typ] (V): 1.6; DatasheetVersion: Rev. 1; PackageVersion: 06-03-16, 03/2006; PackageReference: SOT363; PackageDescription: 6-Pin Small Outline Transistor Package, Body 2 x 1.25 mm, Pitch 0.65 mm; Supplier 1: Digi-Key; Supplier Part Number 1: 568-10512-2-ND; Supplier 2: Digi-Key; Supplier Part Number 2: 568-10512-1-ND; Supplier 3: Digi-Key; Supplier Part Number 3: 568-10512-6-ND; Supplier 4: Mouser; Supplier Part Number 4: 771-NX7002AKS,115; Mounting Technology: Surface Mount; Code_JEITA: SC-88; ComponentLink1Description: Manufacturer URL; ComponentLink1URL: http://www.nxp.com/; ComponentLink2Description: Datasheet; ComponentLink2URL: http://www.nxp.com/documents/data_sheet/NX7002AKS.pdf; ComponentLink3Description: Package Specification; ComponentLink3URL: http://www.nxp.com/documents/outline_drawing/sot363_po.pdf
footprint NXP-SOT363_N (SOT23, 6-Leads, Body 2.2x1.35mm, Pitch 0.65mm, IPC Medium Density)
footprint NXP-SOT363_L (SOT23, 6-Leads, Body 2.2x1.35mm, Pitch 0.65mm, IPC High Density)
footprint NXP-SOT363_M (SOT23, 6-Leads, Body 2.2x1.35mm, Pitch 0.65mm, IPC Low Density)
part A pins: 1 S1 "source TR1", 2 G1 "gate TR1", 6 D1 "drain TR1"
part B pins: 3 D2 "drain TR2", 4 S2 "source TR2", 5 G2 "gate TR2"

## NX7002AKW,115
designator Q?
Single N-Channel Trench MOSFET, 60 V, 0.17 A, -55 to 150 degC, 3-Pin SOT323, Tape and Reel; Manufacturer: NXP Semiconductors; PartNumber: NX7002AKW,115; Channel Type: N; Ciss [typ] (pF): 11; Coss [typ] (pF): 3.4; ID [max] (A): 0.17; Packing: Tape & Reel; VDS [max] (V): 60; VGSth [typ] (V): 1.6; DatasheetVersion: Rev. 2; PackageVersion: 06-03-16, 03/2006; PackageReference: SOT323; PackageDescription: 3-Pin Small Outline Transistor Package, Body 2 x 1.25 mm, Pitch 0.65 mm; Supplier 1: Digi-Key; Supplier Part Number 1: 568-10513-2-ND; Supplier 2: Digi-Key; Supplier Part Number 2: 568-10513-1-ND; Supplier 3: Digi-Key; Supplier Part Number 3: 568-10513-6-ND; Supplier 4: Mouser; Supplier Part Number 4: 771-NX7002AKW,115; Mounting Technology: Surface Mount; Code_JEITA: SC-70; ComponentLink1Description: Manufacturer URL; ComponentLink1URL: http://www.nxp.com/; ComponentLink2Description: Datasheet; ComponentLink2URL: http://www.nxp.com/documents/data_sheet/NX7002AKW.pdf; ComponentLink3Description: Package Specification; ComponentLink3URL: http://www.nxp.com/documents/outline_drawing/sot323_po.pdf
footprint NXP-SOT323_N (SOT23, 3-Leads, Body 2.2x1.35mm, Pitch 0.65mm, IPC Medium Density)
footprint NXP-SOT323_L (SOT23, 3-Leads, Body 2.2x1.35mm, Pitch 0.65mm, IPC High Density)
footprint NXP-SOT323_M (SOT23, 3-Leads, Body 2.2x1.35mm, Pitch 0.65mm, IPC Low Density)
pins: 1 G "gate", 2 S "source", 3 D "drain"

## PH955L,115
designator Q?
N-Channel TrenchMOS Logic Level FET, 55 V, 62.5 A, 5-Pin SOT669, Tape and Reel; Manufacturer: NXP Semiconductors; PartNumber: PH955L,115; Channel Type: N; Ciss [typ] (pF): 2836; Coss [typ] (pF): 441; ID [max] (A): 62.5; Packing: Tape & Reel; Qr [typ] (nC): 48; VDS [max] (V): 55; VGSth [typ] (V): 1.5; DatasheetVersion: Rev. 02; PackageVersion: 13-02-27, 02/2013; PackageReference: SOT669; PackageDescription: 4-Pin Plastic Single-ended Surface Mounted Package, Body 4.9 x 3.95 mm, Pitch 1.27 mm; Supplier 1: Digi-Key; Supplier Part Number 1: PH955L,115-ND; Supplier 2: Mouser; Supplier Part Number 2: 771-PH955L115; Mounting Technology: Surface Mount; Code_JEDEC: MO-235; ComponentLink1Description: Manufacturer URL; ComponentLink1URL: http://www.nxp.com/; ComponentLink2Description: Datasheet; ComponentLink2URL: http://www.nxp.com/documents/data_sheet/PH955L.pdf; ComponentLink3Description: Package Specification; ComponentLink3URL: http://www.nxp.com/documents/outline_drawing/sot669_po.pdf
footprint NXP-SOT669_N (DPAK, 4-Leads, Body 5x4.1mm, Pitch 1.27mm, IPC Medium Density)
footprint NXP-SOT669_L (DPAK, 4-Leads, Body 5x4.1mm, Pitch 1.27mm, IPC High Density)
footprint NXP-SOT669_M (DPAK, 4-Leads, Body 5x4.1mm, Pitch 1.27mm, IPC Low Density)
pins: 1 S "source", 2 S "source", 3 S "source", 4 G "gate", 5 D "mounting base; connected to drain"
text: 1, 2, 3

## PH2520U,115
designator Q?
N-Channel TrenchMOS Ultra Low Level FET, 20 V, 100 A, 5-Pin SOT669, Tape and Reel; Manufacturer: NXP Semiconductors; PartNumber: PH2520U,115; Channel Type: N; Ciss [typ] (pF): 5850; Coss [typ] (pF): 1190; ID [max] (A): 100; Packing: Tape & Reel; VDS [max] (V): 20; VGSth [typ] (V): 0.7; DatasheetVersion: Rev. 03; PackageVersion: 13-02-27, 02/2013; PackageReference: SOT669; PackageDescription: 4-Pin Plastic Single-ended Surface Mounted Package, Body 4.9 x 3.95 mm, Pitch 1.27 mm; Supplier 1: Digi-Key; Supplier Part Number 1: 568-2176-1-ND; Supplier 2: Digi-Key; Supplier Part Number 2: 568-2176-6-ND; Supplier 3: Newark; Supplier Part Number 3: 75R4799; Supplier 4: Mouser; Supplier Part Number 4: 771-PH2520U-T/R; Mounting Technology: Surface Mount; Code_JEDEC: MO-235; ComponentLink1Description: Manufacturer URL; ComponentLink1URL: http://www.nxp.com/; ComponentLink2Description: Datasheet; ComponentLink2URL: http://www.nxp.com/documents/data_sheet/PH2520U.pdf; ComponentLink3Description: Package Specification; ComponentLink3URL: http://www.nxp.com/documents/outline_drawing/sot669_po.pdf
footprint NXP-SOT669_N (DPAK, 4-Leads, Body 5x4.1mm, Pitch 1.27mm, IPC Medium Density)
footprint NXP-SOT669_L (DPAK, 4-Leads, Body 5x4.1mm, Pitch 1.27mm, IPC High Density)
footprint NXP-SOT669_M (DPAK, 4-Leads, Body 5x4.1mm, Pitch 1.27mm, IPC Low Density)
pins: 1 S "source", 2 S "source", 3 S "source", 4 G "gate", 5 D "mounting base; connected to drain"
text: 1, 2, 3

## PH2925U,115
designator Q?
N-Channel TrenchMOS Ultra Low Level FET, 25 V, 100 A, 5-Pin SOT669, Tape and Reel; Manufacturer: NXP Semiconductors; PartNumber: PH2925U,115; Channel Type: N; Ciss [typ] (pF): 6150; Coss [typ] (pF): 1170; ID [max] (A): 100; Packing: Tape & Reel; VDS [max] (V): 25; VGSth [typ] (V): 0.7; DatasheetVersion: Rev. 04; PackageVersion: 13-02-27, 02/2013; PackageReference: SOT669; PackageDescription: 4-Pin Plastic Single-ended Surface Mounted Package, Body 4.9 x 3.95 mm, Pitch 1.27 mm; Supplier 1: Digi-Key; Supplier Part Number 1: 568-2344-2-ND; Supplier 2: Digi-Key; Supplier Part Number 2: 568-2344-1-ND; Supplier 3: Digi-Key; Supplier Part Number 3: 568-2344-6-ND; Supplier 4: Newark; Supplier Part Number 4: 79R2001; Supplier 5: Mouser; Supplier Part Number 5: 771-PH2925U-T/R; Mounting Technology: Surface Mount; Code_JEDEC: MO-235; ComponentLink1Description: Manufacturer URL; ComponentLink1URL: http://www.nxp.com/; ComponentLink2Description: Datasheet; ComponentLink2URL: http://www.nxp.com/documents/data_sheet/PH2925U.pdf; ComponentLink3Description: Package Specification; ComponentLink3URL: http://www.nxp.com/documents/outline_drawing/sot669_po.pdf
footprint NXP-SOT669_N (DPAK, 4-Leads, Body 5x4.1mm, Pitch 1.27mm, IPC Medium Density)
footprint NXP-SOT669_L (DPAK, 4-Leads, Body 5x4.1mm, Pitch 1.27mm, IPC High Density)
footprint NXP-SOT669_M (DPAK, 4-Leads, Body 5x4.1mm, Pitch 1.27mm, IPC Low Density)
pins: 1 S "source", 2 S "source", 3 S "source", 4 G "gate", 5 D "mounting base; connected to drain"
text: 1, 2, 3

## PH3120L,115
designator Q?
N-Channel TrenchMOS Logic Level FET, 20 V, 100 A, 5-Pin SOT669, Tape and Reel; Manufacturer: NXP Semiconductors; PartNumber: PH3120L,115; Channel Type: N; Ciss [typ] (pF): 4457; Coss [typ] (pF): 1480; ID [max] (A): 100; Packing: Tape & Reel; VDS [max] (V): 20; VGSth [typ] (V): 1.5; DatasheetVersion: Rev. 03; PackageVersion: 13-02-27, 02/2013; PackageReference: SOT669; PackageDescription: 4-Pin Plastic Single-ended Surface Mounted Package, Body 4.9 x 3.95 mm, Pitch 1.27 mm; Supplier 1: Digi-Key; Supplier Part Number 1: 568-2178-2-ND; Supplier 2: Digi-Key; Supplier Part Number 2: 568-2178-1-ND; Supplier 3: Digi-Key; Supplier Part Number 3: 568-2178-6-ND; Supplier 4: Mouser; Supplier Part Number 4: 771-PH3120L-T/R; Mounting Technology: Surface Mount; Code_JEDEC: MO-235; ComponentLink1Description: Manufacturer URL; ComponentLink1URL: http://www.nxp.com/; ComponentLink2Description: Datasheet; ComponentLink2URL: http://www.nxp.com/documents/data_sheet/PH3120L.pdf; ComponentLink3Description: Package Specification; ComponentLink3URL: http://www.nxp.com/documents/outline_drawing/sot669_po.pdf
footprint NXP-SOT669_N (DPAK, 4-Leads, Body 5x4.1mm, Pitch 1.27mm, IPC Medium Density)
footprint NXP-SOT669_L (DPAK, 4-Leads, Body 5x4.1mm, Pitch 1.27mm, IPC High Density)
footprint NXP-SOT669_M (DPAK, 4-Leads, Body 5x4.1mm, Pitch 1.27mm, IPC Low Density)
pins: 1 S "source", 2 S "source", 3 S "source", 4 G "gate", 5 D "mounting base; connected to drain"
text: 1, 2, 3

## PH4840S,115
designator Q?
N-Channel TrenchMOS Intermediate Level FET, 40 V, 94.5 A, 5-Pin SOT669, Tape and Reel; Manufacturer: NXP Semiconductors; PartNumber: PH4840S,115; Channel Type: N; Ciss [typ] (pF): 3660; Coss [typ] (pF): 877; ID [max] (A): 94.5; Packing: Tape & Reel; VDS [max] (V): 40; VGSth [typ] (V): 2; DatasheetVersion: Rev. 02; PackageVersion: 13-02-27, 02/2013; PackageReference: SOT669; PackageDescription: 4-Pin Plastic Single-ended Surface Mounted Package, Body 4.9 x 3.95 mm, Pitch 1.27 mm; Supplier 1: Digi-Key; Supplier Part Number 1: 568-2180-2-ND; Supplier 2: Digi-Key; Supplier Part Number 2: 568-2180-1-ND; Supplier 3: Digi-Key; Supplier Part Number 3: 568-2180-6-ND; Supplier 4: Newark; Supplier Part Number 4: 70R7524; Supplier 5: Mouser; Supplier Part Number 5: 771-PH4840S-T/R; Mounting Technology: Surface Mount; Code_JEDEC: MO-235; ComponentLink1Description: Manufacturer URL; ComponentLink1URL: http://www.nxp.com/; ComponentLink2Description: Datasheet; ComponentLink2URL: http://www.nxp.com/documents/data_sheet/PH4840S.pdf; ComponentLink3Description: Package Specification; ComponentLink3URL: http://www.nxp.com/documents/outline_drawing/sot669_po.pdf
footprint NXP-SOT669_N (DPAK, 4-Leads, Body 5x4.1mm, Pitch 1.27mm, IPC Medium Density)
footprint NXP-SOT669_L (DPAK, 4-Leads, Body 5x4.1mm, Pitch 1.27mm, IPC High Density)
footprint NXP-SOT669_M (DPAK, 4-Leads, Body 5x4.1mm, Pitch 1.27mm, IPC Low Density)
pins: 1 S "source", 2 S "source", 3 S "source", 4 G "gate", 5 D "mounting base; connected to drain"
text: 1, 2, 3

## PH20100S,115
designator Q?
N-Channel TrenchMOS Standard Level FET, 100 V, 34.3 A, 5-Pin SOT669, Tape and Reel; Manufacturer: NXP Semiconductors; PartNumber: PH20100S,115; Channel Type: N; Ciss [typ] (pF): 2264; Coss [typ] (pF): 290; ID [max] (A): 34.3; Packing: Tape & Reel; VDS [max] (V): 100; VGSth [typ] (V): 3; DatasheetVersion: Rev. 03; PackageVersion: 13-02-27, 02/2013; PackageReference: SOT669; PackageDescription: 4-Pin Plastic Single-ended Surface Mounted Package, Body 4.9 x 3.95 mm, Pitch 1.27 mm; Supplier 1: Digi-Key; Supplier Part Number 1: 568-2175-1-ND; Supplier 2: Digi-Key; Supplier Part Number 2: 568-2175-6-ND; Supplier 3: Newark; Supplier Part Number 3: 70R7504; Supplier 4: Mouser; Supplier Part Number 4: 771-PH20100S-T/R; Mounting Technology: Surface Mount; Code_JEDEC: MO-235; ComponentLink1Description: Manufacturer URL; ComponentLink1URL: http://www.nxp.com/; ComponentLink2Description: Datasheet; ComponentLink2URL: http://www.nxp.com/documents/data_sheet/PH20100S.pdf; ComponentLink3Description: Package Specification; ComponentLink3URL: http://www.nxp.com/documents/outline_drawing/sot669_po.pdf
footprint NXP-SOT669_N (DPAK, 4-Leads, Body 5x4.1mm, Pitch 1.27mm, IPC Medium Density)
footprint NXP-SOT669_L (DPAK, 4-Leads, Body 5x4.1mm, Pitch 1.27mm, IPC High Density)
footprint NXP-SOT669_M (DPAK, 4-Leads, Body 5x4.1mm, Pitch 1.27mm, IPC Low Density)
pins: 1 S "source", 2 S "source", 3 S "source", 4 G "gate", 5 D "mounting base; connected to drain"
text: 1, 2, 3

## PHB18NQ10T,118
designator Q?
N-Channel TrenchMOS Standard Level FET, 100 V, 18 A, 3-Pin SOT404, Tape and Reel; Manufacturer: NXP Semiconductors; PartNumber: PHB18NQ10T,118; Channel Type: N; Ciss [typ] (pF): 633; Coss [typ] (pF): 103; ID [max] (A): 18; Packing: Tape & Reel; Qr [typ] (nC): 135; VDS [max] (V): 100; VGSth [typ] (V): 3; DatasheetVersion: Rev. 02; PackageVersion: 13-02-25, 02/2013; PackageReference: SOT404; PackageDescription: 3-Pin Plastic Single-ended Surface Mounted Package, Body 10 x 9.6 mm, Pitch 2.54 mm; Supplier 1: Digi-Key; Supplier Part Number 1: PHB18NQ10T,118-ND; Supplier 2: Mouser; Supplier Part Number 2: 771-PHB18NQ10T118; Mounting Technology: Surface Mount; ComponentLink1Description: Manufacturer URL; ComponentLink1URL: http://www.nxp.com/; ComponentLink2Description: Datasheet; ComponentLink2URL: http://www.nxp.com/documents/data_sheet/PHB18NQ10T.pdf; ComponentLink3Description: Package Specification; ComponentLink3URL: http://www.nxp.com/documents/outline_drawing/sot404_po.pdf
footprint NXP-SOT404_N (DPAK, 3-Leads, Body 10.3x9.8mm, Pitch 2.54mm, IPC Medium Density)
footprint NXP-SOT404_L (DPAK, 3-Leads, Body 10.3x9.8mm, Pitch 2.54mm, IPC High Density)
footprint NXP-SOT404_M (DPAK, 3-Leads, Body 10.3x9.8mm, Pitch 2.54mm, IPC Low Density)
pins: 1 G "gate", 3 S "source", 4 D "mounting base; connected to drain"

## PHB20N06T,118
designator Q?
N-Channel TrenchMOS Standard Level FET, 55 V, 20.3 A, 3-Pin SOT404, Tape and Reel; Manufacturer: NXP Semiconductors; PartNumber: PHB20N06T,118; Channel Type: N; Ciss [typ] (pF): 320; Coss [typ] (pF): 92; ID [max] (A): 20.3; Packing: Tape & Reel; Qr [typ] (nC): 120; VDS [max] (V): 55; VGSth [typ] (V): 3; DatasheetVersion: Rev. 02; PackageVersion: 13-02-25, 02/2013; PackageReference: SOT404; PackageDescription: 3-Pin Plastic Single-ended Surface Mounted Package, Body 10 x 9.6 mm, Pitch 2.54 mm; Supplier 1: Digi-Key; Supplier Part Number 1: 568-5938-2-ND; Supplier 2: Digi-Key; Supplier Part Number 2: 568-5938-1-ND; Supplier 3: Digi-Key; Supplier Part Number 3: 568-5938-6-ND; Supplier 4: Newark; Supplier Part Number 4: 70R7402; Supplier 5: Mouser; Supplier Part Number 5: 771-PHB20N06T118; Mounting Technology: Surface Mount; ComponentLink1Description: Manufacturer URL; ComponentLink1URL: http://www.nxp.com/; ComponentLink2Description: Datasheet; ComponentLink2URL: http://www.nxp.com/documents/data_sheet/PHB20N06T.pdf; ComponentLink3Description: Package Specification; ComponentLink3URL: http://www.nxp.com/documents/outline_drawing/sot404_po.pdf
footprint NXP-SOT404_N (DPAK, 3-Leads, Body 10.3x9.8mm, Pitch 2.54mm, IPC Medium Density)
footprint NXP-SOT404_L (DPAK, 3-Leads, Body 10.3x9.8mm, Pitch 2.54mm, IPC High Density)
footprint NXP-SOT404_M (DPAK, 3-Leads, Body 10.3x9.8mm, Pitch 2.54mm, IPC Low Density)
pins: 1 G "gate", 3 S "source", 4 D "mounting base; connected to drain"

## PHB20NQ20T,118
designator Q?
N-Channel TrenchMOS Standard Level FET, 200 V, 20 A, 3-Pin SOT404, Tape and Reel; Manufacturer: NXP Semiconductors; PartNumber: PHB20NQ20T,118; Channel Type: N; Ciss [typ] (pF): 2470; Coss [typ] (pF): 207; ID [max] (A): 20; Packing: Tape & Reel; Qr [typ] (nC): 740; VDS [max] (V): 200; VGSth [typ] (V): 3; DatasheetVersion: Rev. 02; PackageVersion: 13-02-25, 02/2013; PackageReference: SOT404; PackageDescription: 3-Pin Plastic Single-ended Surface Mounted Package, Body 10 x 9.6 mm, Pitch 2.54 mm; Supplier 1: Digi-Key; Supplier Part Number 1: 568-9692-2-ND; Supplier 2: Digi-Key; Supplier Part Number 2: 568-9692-1-ND; Supplier 3: Digi-Key; Supplier Part Number 3: 568-9692-6-ND; Supplier 4: Mouser; Supplier Part Number 4: 771-PHB20NQ20T118; Mounting Technology: Surface Mount; ComponentLink1Description: Manufacturer URL; ComponentLink1URL: http://www.nxp.com/; ComponentLink2Description: Datasheet; ComponentLink2URL: http://www.nxp.com/documents/data_sheet/PHB20NQ20T.pdf; ComponentLink3Description: Package Specification; ComponentLink3URL: http://www.nxp.com/documents/outline_drawing/sot404_po.pdf
footprint NXP-SOT404_N (DPAK, 3-Leads, Body 10.3x9.8mm, Pitch 2.54mm, IPC Medium Density)
footprint NXP-SOT404_L (DPAK, 3-Leads, Body 10.3x9.8mm, Pitch 2.54mm, IPC High Density)
footprint NXP-SOT404_M (DPAK, 3-Leads, Body 10.3x9.8mm, Pitch 2.54mm, IPC Low Density)
pins: 1 G "gate", 3 S "source", 4 D "mounting base; connected to drain"

## PHB21N06LT,118
designator Q?
N-Channel TrenchMOS(TM) Transistor Logic Level FET, 55 V, 19 A, -55 to 175 degC, 3-Pin SOT404, Tape and Reel; Manufacturer: NXP Semiconductors; PartNumber: PHB21N06LT,118; Channel Type: N; Ciss [typ] (pF): 466; Coss [typ] (pF): 95; ID [max] (A): 19; Packing: Tape & Reel; Qr [typ] (nC): 94; VDS [max] (V): 55; VGSth [typ] (V): 1.5; DatasheetVersion: Rev. 1.500; PackageReference: SOT404_A; PackageDescription: 3-Pin Plastic Single-ended Surface Mounted Package, Body 10.3 x 9.8 mm, Pitch 2.54 mm; Supplier 1: Digi-Key; Supplier Part Number 1: 568-5939-2-ND; Supplier 2: Digi-Key; Supplier Part Number 2: 568-5939-1-ND; Supplier 3: Digi-Key; Supplier Part Number 3: 568-5939-6-ND; Supplier 4: Mouser; Supplier Part Number 4: 771-PHB21N06LT118; Mounting Technology: Surface Mount; ComponentLink1Description: Manufacturer URL; ComponentLink1URL: http://www.nxp.com/; ComponentLink2Description: Datasheet; ComponentLink2URL: http://www.nxp.com/documents/data_sheet/PHB_PHD_PHP21N06LT.pdf; ComponentLink3Description: Package Specification; ComponentLink3URL: http://www.nxp.com/documents/data_sheet/BUK7608-55.pdf
footprint NXP-SOT404_A_V (DPAK, 3-Leads, Body 10.3x9.8mm, Pitch 2.54mm, Recommended)
pins: 1 G "gate", 3 S "source", 4 D "mounting base; connected to drain"

## PHB27NQ10T,118
designator Q?
N-Channel TrenchMOS Standard Level FET, 100 V, 28 A, 3-Pin SOT404, Tape and Reel; Manufacturer: NXP Semiconductors; PartNumber: PHB27NQ10T,118; Channel Type: N; Ciss [typ] (pF): 1240; Coss [typ] (pF): 172; ID [max] (A): 28; Packing: Tape & Reel; Qr [typ] (nC): 160; VDS [max] (V): 100; VGSth [typ] (V): 3; DatasheetVersion: Rev. 02; PackageVersion: 13-02-25, 02/2013; PackageReference: SOT404; PackageDescription: 3-Pin Plastic Single-ended Surface Mounted Package, Body 10 x 9.6 mm, Pitch 2.54 mm; Supplier 1: Digi-Key; Supplier Part Number 1: 568-5940-2-ND; Supplier 2: Digi-Key; Supplier Part Number 2: 568-5940-1-ND; Supplier 3: Digi-Key; Supplier Part Number 3: 568-5940-6-ND; Supplier 4: Newark; Supplier Part Number 4: 70R7404; Supplier 5: Mouser; Supplier Part Number 5: 771-PHB27NQ10T118; Mounting Technology: Surface Mount; ComponentLink1Description: Manufacturer URL; ComponentLink1URL: http://www.nxp.com/; ComponentLink2Description: Datasheet; ComponentLink2URL: http://www.nxp.com/documents/data_sheet/PHB27NQ10T.pdf; ComponentLink3Description: Package Specification; ComponentLink3URL: http://www.nxp.com/documents/outline_drawing/sot404_po.pdf
footprint NXP-SOT404_N (DPAK, 3-Leads, Body 10.3x9.8mm, Pitch 2.54mm, IPC Medium Density)
footprint NXP-SOT404_L (DPAK, 3-Leads, Body 10.3x9.8mm, Pitch 2.54mm, IPC High Density)
footprint NXP-SOT404_M (DPAK, 3-Leads, Body 10.3x9.8mm, Pitch 2.54mm, IPC Low Density)
pins: 1 G "gate", 3 S "source", 4 D "mounting base; connected to drain"